# EAGLE library part HX711 (library Hexabitz)
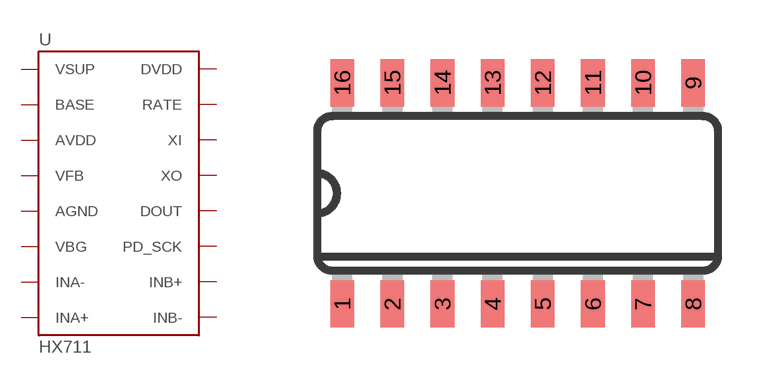
[diagram p5: symbol with the pads of HX711_SO16; footprint HX711_SO16]

Designator prefix U

## HX711  [HX711_SO16]
1  VSUP
2  BASE
3  AVDD
4  VFB
5  AGND
6  VBG
7  INA-
8  INA+
9  INB-
10  INB+
11  PD_SCK
12  DOUT
13  XO
14  XI
15  RATE
16  DVDD

## Footprint HX711_SO16 (pad centres in mm)
Small Outline package 150 mil
smd 0.6 x 1.2: 1 -4.445,-2.8; 2 -3.175,-2.8; 3 -1.905,-2.8; 4 -0.635,-2.8; 5 0.635,-2.8; 6 1.905,-2.8; 7 3.175,-2.8; 8 4.445,-2.8; 9 4.445,2.8; 10 3.175,2.8; 11 1.905,2.8; 12 0.635,2.8; 13 -0.635,2.8; 14 -1.905,2.8; 15 -3.175,2.8; 16 -4.445,2.8